# Altium footprint library Header_Edited_PCBLib.PcbLib: 7 footprints
Each footprint in its own frame and in the unit in brackets; x right, y up, seen from the top. Pads: shape width x height; smd on the part's side, far side on the other; paste and mask are expansions set on the pad; w line width, h text height; cw(c..) or ccw(c..) is an arc to the next point about the centre after c.
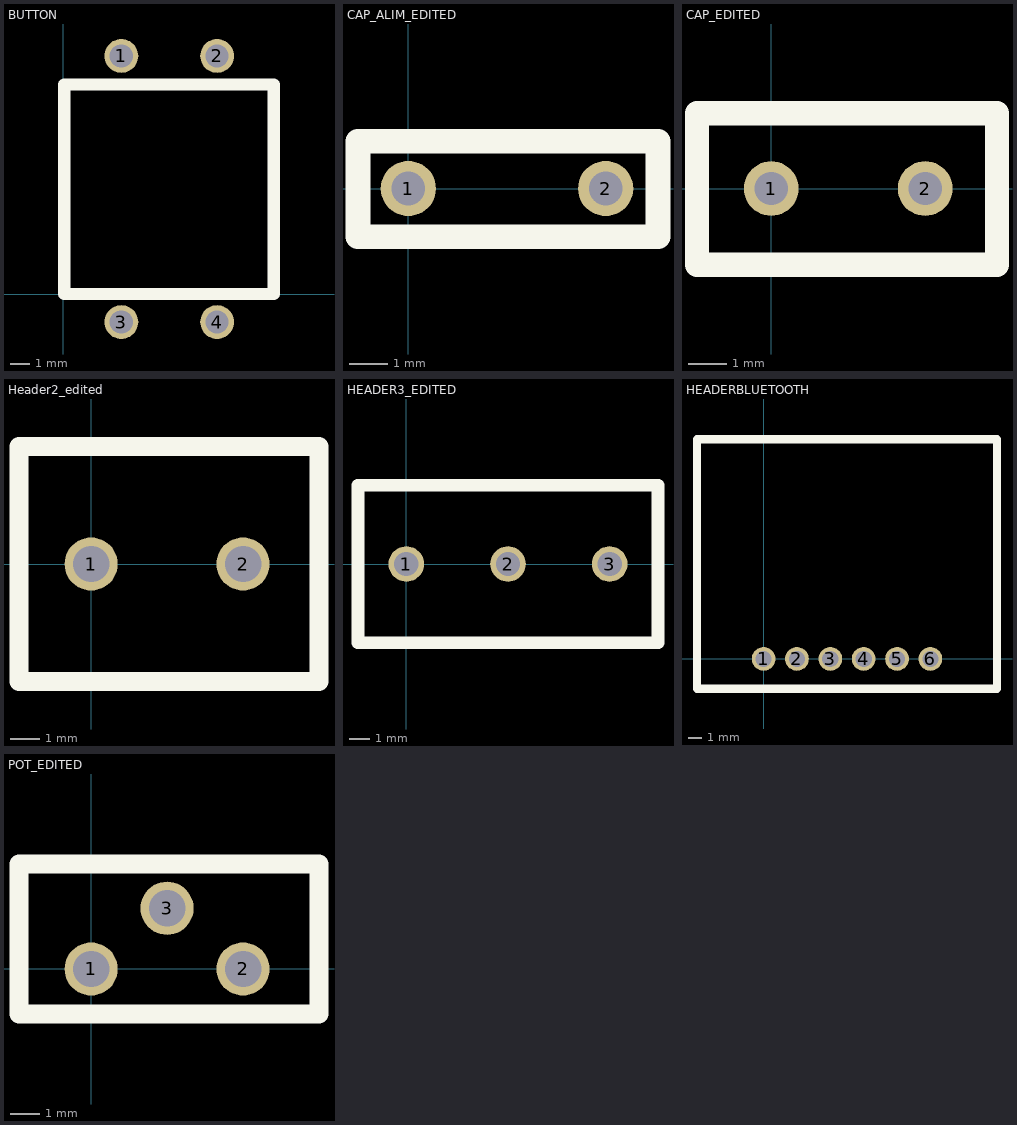
[diagram p0: the footprints below, top view; thin cyan lines are the x and y axes]

## BUTTON [mil]
pads (4):
  round 70 hole 48: 1(120,493) 2(318,493) 3(120,-57) 4(318,-57)
Top Overlay:
  lines w25: 2,1 2,434.07 435.07,434.07 435.07,1 2,1

## CAP_ALIM_EDITED [mil]
pads (2):
  round 56 hole 34: 1(0,0) 2(200,0)
Top Overlay:
  lines w25: -51,47 -51,-49 253,-49 253,48 -51,48

## CAP_EDITED [mil]
pads (2):
  round 56 hole 34: 1(0,0) 2(157.48,0)
Top Overlay:
  lines w25: -76,-78 231,-78 231,77 -76,77 -76,-78

## Header2_edited [mil]
pads (2):
  round 70 hole 48: 1(0,0) 2(200,0)
Top Overlay:
  lines w25: -95,-155 300,-155 300,155 -95,155 -95,-155

## HEADER3_EDITED [mil]
pads (3):
  round 70 hole 48: 1(0,0) 2(200,0) 3(400,0)
Top Overlay:
  lines w25: -95,-155 -95,155 495,155 495,-155 -95,-155

## HEADERBLUETOOTH [mil]
pads (6):
  round 70 hole 48: 1(0,0) 2(98.58,0) 3(197.16,0) 4(295.74,0) 5(394.32,0) 6(492.9,0)
Top Overlay:
  lines w25: -196.85,-88 689.75,-88 689.75,649 -196.85,649 -196.85,-88

## POT_EDITED [mil]
pads (3):
  round 70 hole 48: 1(0,0) 2(200,0) 3(100,80)
Top Overlay:
  lines w25: -95,137 -95,-59 300,-59 300,138 -95,138